# Altium schematic symbol library UCM1H101MCL1GS.SchLib: 1 symbol
Pins are listed as number, name and electrical type; pins without a type are passive.

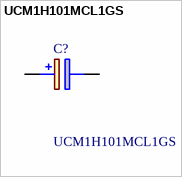
[diagram p0: symbol UCM1H101MCL1GS]

## UCM1H101MCL1GS
designator C?
Nichicon 100uF 50 V Aluminium Electrolytic Capacitor SMD, CM Series 2000h 6.3 (Dia.) x 7.7mm; Geometry.Height: 8mm; Mouser Part Number: 647-UCM1H101MCL1GS; Mouser Price/Stock: https://www.mouser.co.uk/ProductDetail/Nichicon/UCM1H101MCL1GS?qs=DSgADHjnLTkk%252B%2Fewo0WoDQ%3D%3D; Manufacturer_Name: Nichicon; Manufacturer_Part_Number: UCM1H101MCL1GS; Datasheet Link: http://www.nichicon.co.jp/english/products/pdfs/e-ucm.pdf
footprint CAPAE660X800N
pins: 1 +, 2 -